# Altium schematic symbol library USB Connectors.SchLib: 40 symbols
Pins are listed as number, name and electrical type; pins without a type are passive.

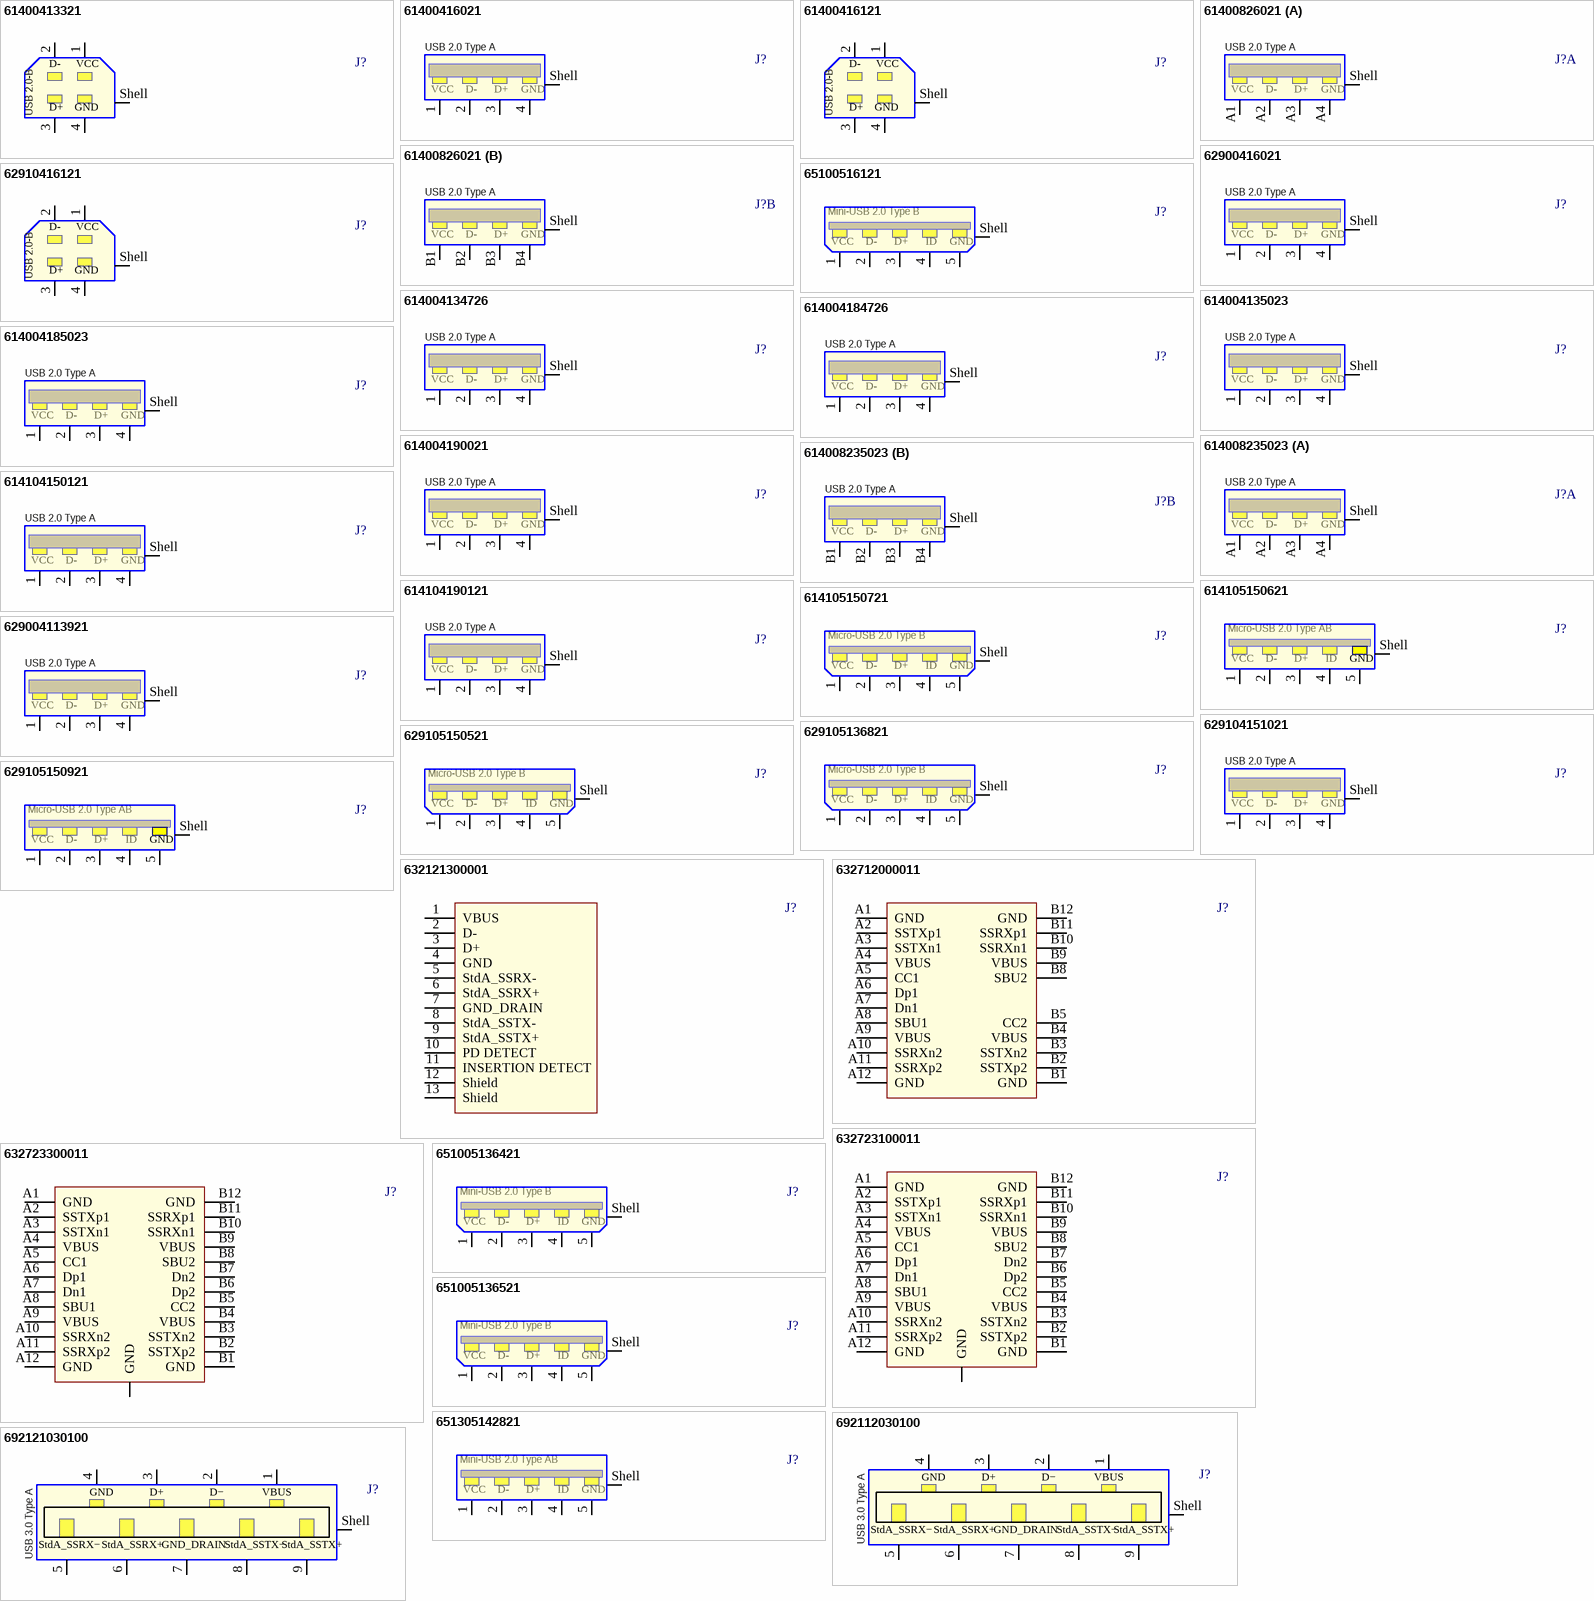
[diagram p0: symbols 61400413321 to 692121030100]

## 61400413321
designator J?
WR-COM USB 2.0 Type B Vertical; PartNumber: 61400413321; Published: June 2016; Publisher: Wurth Elektronik; ComponentLink1Description: Manufacturer; ComponentLink1URL: http://www.we-online.de; ComponentLink2Description: Datasheet; ComponentLink2URL: http://katalog.we-online.de/em/datasheet/61400413321.pdf
footprint 61400413321 (F Str 04p Btype vertical)
pins: 1 VCC, 2 D-, 3 D+, 4 GND, Shell
text: USB 2.0-B

## 61400416021
designator J?
WR-COM USB 2.0 Type A Horizontal; PartNumber: 61400416021; Published: June 2016; Publisher: Wurth Elektronik; ComponentLink1Description: Manufacturer; ComponentLink1URL: http://www.we-online.de; ComponentLink2Description: Datasheet; ComponentLink2URL: http://katalog.we-online.de/em/datasheet/61400416021.pdf
footprint 61400416021 (4 pins)
pins: 1 VCC, 2 D-, 3 D+, 4 GND, Shell
text: USB 2.0 Type A

## 61400416121
designator J?
WR-COM USB 2.0 Type B Horizontal; PartNumber: 61400416121; Published: June 2016; Publisher: Wurth Elektronik; ComponentLink1Description: Manufacturer; ComponentLink1URL: http://www.we-online.de; ComponentLink2Description: Datasheet; ComponentLink2URL: http://katalog.we-online.de/em/datasheet/61400416121.pdf
footprint 61400416121 (WR-COM Horizontal USB Type B    4 pins)
pins: 1 VCC, 2 D-, 3 D+, 4 GND, Shell
text: USB 2.0-B

## 61400826021
designator J?
WR-COM USB 2.0 Type A Horizontal Dual Stacked; PartNumber: 61400826021; Published: June 2016; Publisher: Wurth Elektronik; ComponentLink1Description: Manufacturer; ComponentLink1URL: http://www.we-online.de; ComponentLink2Description: Datasheet; ComponentLink2URL: http://katalog.we-online.de/em/datasheet/61400826021.pdf
footprint 61400826021 (2 x 4 pins)
part A pins: A1 VCC, A2 D-, A3 D+, A4 GND, Shell
part B pins: B1 VCC, B2 D-, B3 D+, B4 GND, Shell
part A text: USB 2.0 Type A
part B text: USB 2.0 Type A

## 62900416021
designator J?
WR-COM USB 2.0 SMT Type A Horizontal; PartNumber: 62900416021; Published: June 2016; Publisher: Wurth Elektronik; ComponentLink1Description: Manufacturer; ComponentLink1URL: http://www.we-online.de; ComponentLink2Description: Datasheet; ComponentLink2URL: http://katalog.we-online.de/em/datasheet/62900416021.pdf
footprint 62900416021 (4 pins)
pins: 1 VCC, 2 D-, 3 D+, 4 GND, Shell
text: USB 2.0 Type A

## 62910416121
designator J?
WR-COM USB 2.0 Type B SMT Horizontal; PartNumber: 62910416121; Published: June 2016; Publisher: Wurth Elektronik; ComponentLink1Description: Manufacturer; ComponentLink1URL: http://www.we-online.de; ComponentLink2Description: Datasheet; ComponentLink2URL: http://katalog.we-online.de/em/datasheet/62910416121.pdf
footprint 62910416121 (4 pins)
pins: 1 VCC, 2 D-, 3 D+, 4 GND, Shell
text: USB 2.0-B

## 65100516121
designator J?
WR-COM Mini USB 2.0 Type B SMT Horizontal 5 Contacts; PartNumber: 65100516121; Published: June 2016; Publisher: Wurth Elektronik; ComponentLink1Description: Manufacturer; ComponentLink1URL: http://www.we-online.de; ComponentLink2Description: Datasheet; ComponentLink2URL: http://katalog.we-online.de/em/datasheet/65100516121.pdf
footprint 65100516121 (5 pins)
pins: 1 VCC, 2 D-, 3 D+, 4 ID, 5 GND, Shell
text: Mini-USB 2.0 Type B

## 614004134726
designator J?
WR-COM USB 2.0 Type A Up Right; PartNumber: 614004134726; Published: June 2016; Publisher: Wurth Elektronik; ComponentLink1Description: Manufacturer; ComponentLink1URL: http://www.we-online.de; ComponentLink2Description: Datasheet; ComponentLink2URL: http://katalog.we-online.de/em/datasheet/614004134726.pdf
footprint 614004134726 (4 pins)
pins: 1 VCC, 2 D-, 3 D+, 4 GND, Shell
text: USB 2.0 Type A

## 614004135023
designator J?
WR-COM USB 2.0 Type A Vertical; PartNumber: 614004135023; Published: June 2016; Publisher: Wurth Elektronik; ComponentLink1Description: Manufacturer; ComponentLink1URL: http://www.we-online.de; ComponentLink2Description: Datasheet; ComponentLink2URL: http://katalog.we-online.de/em/datasheet/614004135023.pdf
footprint 614004135023 (4 pins)
pins: 1 VCC, 2 D-, 3 D+, 4 GND, Shell
text: USB 2.0 Type A

## 614004184726
designator J?
WR-COM USB 2.0 Type A Up Right THT; PartNumber: 614004184726; Published: June 2016; Publisher: Wurth Elektronik; ComponentLink1Description: Manufacturer; ComponentLink1URL: http://www.we-online.de; ComponentLink2Description: Datasheet; ComponentLink2URL: http://katalog.we-online.de/em/datasheet/614004184726.pdf
footprint 614004184726 (Type A Up Right THT - Short Type)
pins: 1 VCC, 2 D-, 3 D+, 4 GND, Shell
text: USB 2.0 Type A

## 614004185023
designator J?
WR-COM USB 2.0 Type A Vertical Short Type THT; PartNumber: 614004185023; Published: June 2016; Publisher: Wurth Elektronik; ComponentLink1Description: Manufacturer; ComponentLink1URL: http://www.we-online.de; ComponentLink2Description: Datasheet; ComponentLink2URL: http://katalog.we-online.de/em/datasheet/614004185023.pdf
footprint 614004185023 (Type A Vertical THT - with Clips - Short Type)
pins: 1 VCC, 2 D-, 3 D+, 4 GND, Shell
text: USB 2.0 Type A

## 614004190021
designator J?
WR-COM USB 2.0 Type A Horizontal THT; PartNumber: 614004190021; Published: June 2016; Publisher: Wurth Elektronik; ComponentLink1Description: Manufacturer; ComponentLink1URL: http://www.we-online.de; ComponentLink2Description: Datasheet; ComponentLink2URL: http://katalog.we-online.de/em/datasheet/614004190021.pdf
footprint 614004190021 (Type A Horizontal THT)
pins: 1 VCC, 2 D-, 3 D+, 4 GND, Shell
text: USB 2.0 Type A

## 614008235023
designator J?
WR-COM USB 2.0 Type A Vertical Dual; PartNumber: 614008235023; Published: June 2016; Publisher: Wurth Elektronik; ComponentLink1Description: Manufacturer; ComponentLink1URL: http://www.we-online.de; ComponentLink2Description: Datasheet; ComponentLink2URL: http://katalog.we-online.de/em/datasheet/614008235023.pdf
footprint 614008235023 (2 x 4 pins)
part A pins: A1 VCC, A2 D-, A3 D+, A4 GND, Shell
part B pins: B1 VCC, B2 D-, B3 D+, B4 GND, Shell
part A text: USB 2.0 Type A
part B text: USB 2.0 Type A

## 614104150121
designator J?
WR-COM USB 2.0 THT Type A Horizontal Slim Type; PartNumber: 614104150121; Published: June 2016; Publisher: Wurth Elektronik; ComponentLink1Description: Manufacturer; ComponentLink1URL: http://www.we-online.de; ComponentLink2Description: Datasheet; ComponentLink2URL: http://katalog.we-online.de/em/datasheet/614104150121.pdf
footprint 614104150121 (WR-COM_USB_Type A_Reverse Horizontal_THT Type A Reverse Horizontal THT - with Clips - Slim type for PCB thickness 1.20mm)
pins: 1 VCC, 2 D-, 3 D+, 4 GND, Shell
text: USB 2.0 Type A

## 614104190121
designator J?
WR-COM USB 2.0 Type A Horizontal THT Short Type; PartNumber: 614104190121; Published: June 2016; Publisher: Wurth Elektronik; ComponentLink1Description: Manufacturer; ComponentLink1URL: http://www.we-online.de; ComponentLink2Description: Datasheet; ComponentLink2URL: http://katalog.we-online.de/em/datasheet/614104190121.pdf
footprint 614104190121 (Type A Horizontal THT - Short Type)
pins: 1 VCC, 2 D-, 3 D+, 4 GND, Shell
text: USB 2.0 Type A

## 614105150621
designator J?
WR-COM Micro USB 2.0 Type AB Vertical 5 Contacts; PartNumber: 614105150621; Published: June 2016; Publisher: Wurth Elektronik; ComponentLink1Description: Manufacturer; ComponentLink1URL: http://www.we-online.de; ComponentLink2Description: Datasheet; ComponentLink2URL: http://katalog.we-online.de/em/datasheet/614105150621.pdf
footprint 614105150621 (WR-COM_USB_Micro Type AB_Vertical_THT Micro Type AB Vertical THT)
pins: 1 VCC, 2 D-, 3 D+, 4 ID, 5 GND, Shell
text: Micro-USB 2.0 Type AB

## 614105150721
designator J?
WR-COM Micro USB 2.0 Type B Vertical 5 Contacts; PartNumber: 614105150721; Published: June 2016; Publisher: Wurth Elektronik; ComponentLink1Description: Manufacturer; ComponentLink1URL: http://www.we-online.de; ComponentLink2Description: Datasheet; ComponentLink2URL: http://katalog.we-online.de/em/datasheet/614105150721.pdf
footprint 614105150721 (WR-COM_USB_Micro Type B_Vertical_THT Micro Type B Vertical THT)
pins: 1 VCC, 2 D-, 3 D+, 4 ID, 5 GND, Shell
text: Micro-USB 2.0 Type B

## 629004113921
designator J?
WR-COM USB 2.0 Plug Type A SMT w. Clip; PartNumber: 629004113921; Published: June 2016; Publisher: Wurth Elektronik; ComponentLink1Description: Manufacturer; ComponentLink1URL: http://www.we-online.de; ComponentLink2Description: Datasheet; ComponentLink2URL: http://katalog.we-online.de/em/datasheet/629004113921.pdf
footprint 629004113921 (4 pins)
pins: 1 VCC, 2 D-, 3 D+, 4 GND, Shell
text: USB 2.0 Type A

## 629104151021
designator J?
WR-COM USB 2.0 Type A Horizontal SMT with pegs; PartNumber: 629104151021; Published: June 2016; Publisher: Wurth Elektronik; ComponentLink1Description: Manufacturer; ComponentLink1URL: http://www.we-online.de; ComponentLink2Description: Datasheet; ComponentLink2URL: http://katalog.we-online.de/em/datasheet/629104151021.pdf
footprint 629104151021 (WR-COM_USB_Type A_Horizontal_SMT Type A Horizontal SMT - with Pegs - T&R Packaging)
pins: 1 VCC, 2 D-, 3 D+, 4 GND, Shell
text: USB 2.0 Type A

## 629105136821
designator J?
WR-COM Micro USB 2.0 SMT Type B Horizontal 5 Contacts; PartNumber: 629105136821; Published: June 2016; Publisher: Wurth Elektronik; ComponentLink1Description: Manufacturer; ComponentLink1URL: http://www.we-online.de; ComponentLink2Description: Datasheet; ComponentLink2URL: http://katalog.we-online.de/em/datasheet/629105136821.pdf
footprint 629105136821 (5 pins)
pins: 1 VCC, 2 D-, 3 D+, 4 ID, 5 GND, Shell
text: Micro-USB 2.0 Type B

## 629105150521
designator J?
WR-COM Micro USB 2.0 SMT Type B Horizontal 5 Contacts; PartNumber: 629105150521; Published: June 2016; Publisher: Wurth Elektronik; ComponentLink1Description: Manufacturer; ComponentLink1URL: http://www.we-online.de; ComponentLink2Description: Datasheet; ComponentLink2URL: http://katalog.we-online.de/em/datasheet/629105150521.pdf
footprint 629105150521 (WR-COM_USB_Micro Type B_Horizontal_SMT Micro Type B Horizontal SMT - 3A current at Pin1 & Pin 5 - with Pegs and THT shielding Pins  - T&R Packaging)
pins: 1 VCC, 2 D-, 3 D+, 4 ID, 5 GND, Shell
text: Micro-USB 2.0 Type B

## 629105150921
designator J?
WR-COM Micro USB 2.0 Type AB Horizontal; PartNumber: 629105150921; Published: June 2016; Publisher: Wurth Elektronik; ComponentLink1Description: Manufacturer; ComponentLink1URL: http://www.we-online.de; ComponentLink2Description: Datasheet; ComponentLink2URL: http://katalog.we-online.de/em/datasheet/629105150921.pdf
footprint 629105150921 (WR-COM_USB_Micro Type AB_Horizontal_SMT Micro Type AB Horizontal SMT - with Pegs - T&R Packaging)
pins: 1 VCC, 2 D-, 3 D+, 4 ID, 5 GND, Shell
text: Micro-USB 2.0 Type AB

## 632121300001
designator J?
WR-COM USB 3.1 Type A Receptacle Horizontal THT Power Delivery; PartNumber: 632121300001; Published: June 2016; Publisher: Wurth Elektronik; ComponentLink1Description: Manufacturer; ComponentLink1URL: http://www.we-online.de; ComponentLink2Description: Datasheet; ComponentLink2URL: http://katalog.we-online.de/em/datasheet/632121300001.pdf
footprint 632121300001 (USB 3.1_Type A_Horizontal_THT)
pins: 1 VBUS, 2 D-, 3 D+, 4 GND, 5 StdA_SSRX-, 6 StdA_SSRX+, 7 GND_DRAIN, 8 StdA_SSTX-, 9 StdA_SSTX+, 10 PD DETECT, 11 INSERTION DETECT, 12 Shield, 13 Shield

## 632712000011
designator J?
WR-COM USB 3.1 Type C Plug Horizontal SMT; PartNumber: 632712000011; Published: June 2016; Publisher: Wurth Elektronik; ComponentLink1Description: Manufacturer; ComponentLink1URL: http://www.we-online.de; ComponentLink2Description: Datasheet; ComponentLink2URL: http://katalog.we-online.de/em/datasheet/632712000011.pdf
footprint 632712000011 (Type C Plug Horizontal SMT)
pins: A1 GND, A2 SSTXp1, A3 SSTXn1, A4 VBUS, A5 CC1, A6 Dp1, A7 Dn1, A8 SBU1, A9 VBUS, A10 SSRXn2, A11 SSRXp2, A12 GND, B1 GND, B2 SSTXp2, B3 SSTXn2, B4 VBUS, B5 CC2, B8 SBU2, B9 VBUS, B10 SSRXn1, B11 SSRXp1, B12 GND

## 632723100011
designator J?
WR-COM USB 3.1 Type C Receptacle Horizontal THT & SMT; PartNumber: 632723100011; Published: June 2016; Publisher: Wurth Elektronik; ComponentLink1Description: Manufacturer; ComponentLink1URL: http://www.we-online.de; ComponentLink2Description: Datasheet; ComponentLink2URL: http://katalog.we-online.de/em/datasheet/632723x00011.pdf
footprint 632723100011 (USB 3.1_Type C_Horizontal_THT/SMT_1.0mm)
pins: A1 GND, A2 SSTXp1, A3 SSTXn1, A4 VBUS, A5 CC1, A6 Dp1, A7 Dn1, A8 SBU1, A9 VBUS, A10 SSRXn2, A11 SSRXp2, A12 GND, B1 GND, B2 SSTXp2, B3 SSTXn2, B4 VBUS, B5 CC2, B6 Dp2, B7 Dn2, B8 SBU2, B9 VBUS, B10 SSRXn1, B11 SSRXp1, B12 GND, GND

## 632723300011
designator J?
WR-COM USB 3.1 Type C Receptacle Horizontal THT & SMT; PartNumber: 632723300011; Published: June 2016; Publisher: Wurth Elektronik; ComponentLink1Description: Manufacturer; ComponentLink1URL: http://www.we-online.de; ComponentLink2Description: Datasheet; ComponentLink2URL: http://katalog.we-online.de/em/datasheet/632723x00011.pdf
footprint 632723300011 (USB 3.1_Type C_Horizontal_THT/SMT)
pins: A1 GND, A2 SSTXp1, A3 SSTXn1, A4 VBUS, A5 CC1, A6 Dp1, A7 Dn1, A8 SBU1, A9 VBUS, A10 SSRXn2, A11 SSRXp2, A12 GND, B1 GND, B2 SSTXp2, B3 SSTXn2, B4 VBUS, B5 CC2, B6 Dp2, B7 Dn2, B8 SBU2, B9 VBUS, B10 SSRXn1, B11 SSRXp1, B12 GND, GND

## 651005136421
designator J?
WR-COM Mini USB 2.0 Type B Vertical 5 Contacts; PartNumber: 651005136421; Published: June 2016; Publisher: Wurth Elektronik; ComponentLink1Description: Manufacturer; ComponentLink1URL: http://www.we-online.de; ComponentLink2Description: Datasheet; ComponentLink2URL: http://katalog.we-online.de/em/datasheet/651005136421.pdf
footprint 651005136421 (5 pins)
pins: 1 VCC, 2 D-, 3 D+, 4 ID, 5 GND, Shell
text: Mini-USB 2.0 Type B

## 651005136521
designator J?
WR-COM Mini USB 2.0 Type B Horizontal 5 Contacts; PartNumber: 651005136521; Published: June 2016; Publisher: Wurth Elektronik; ComponentLink1Description: Manufacturer; ComponentLink1URL: http://www.we-online.de; ComponentLink2Description: Datasheet; ComponentLink2URL: http://katalog.we-online.de/em/datasheet/651005136521.pdf
footprint 651005136521 (5 pins)
pins: 1 VCC, 2 D-, 3 D+, 4 ID, 5 GND, Shell
text: Mini-USB 2.0 Type B

## 651305142821
designator J?
WR-COM Mini USB 2.0 Type AB SMT Horizontal 5 Contacts; PartNumber: 651305142821; Published: June 2016; Publisher: Wurth Elektronik; ComponentLink1Description: Manufacturer; ComponentLink1URL: http://www.we-online.de; ComponentLink2Description: Datasheet; ComponentLink2URL: http://katalog.we-online.de/em/datasheet/651305142821.pdf
footprint 651305142821 (5 pins)
pins: 1 VCC, 2 D-, 3 D+, 4 ID, 5 GND, Shell
text: Mini-USB 2.0 Type AB

## 692112030100
designator J?
WR-COM USB 3.0 Type A SMT Plug with Clip; PartNumber: 692112030100; Published: June 2016; Publisher: Wurth Elektronik; ComponentLink1Description: Manufacturer; ComponentLink1URL: http://www.we-online.de; ComponentLink2Description: Datasheet; ComponentLink2URL: http://katalog.we-online.de/em/datasheet/692112030100.pdf
footprint 692112030100 (Plug SMT)
pins: 1 VBUS, 2 D−, 3 D+, 4 GND, 5 StdA_SSRX−, 6 StdA_SSRX+, 7 GND_DRAIN, 8 StdA_SSTX−, 9 StdA_SSTX+, Shell
text: USB 3.0 Type A

## 692121030100
designator J?
WR-COM USB 3.0 Type A Horizontal; PartNumber: 692121030100; Published: June 2016; Publisher: Wurth Elektronik; ComponentLink1Description: Manufacturer; ComponentLink1URL: http://www.we-online.de; ComponentLink2Description: Datasheet; ComponentLink2URL: http://katalog.we-online.de/em/datasheet/692121030100.pdf
footprint 692121030100 (Receptacle Through hole)
pins: 1 VBUS, 2 D−, 3 D+, 4 GND, 5 StdA_SSRX−, 6 StdA_SSRX+, 7 GND_DRAIN, 8 StdA_SSTX−, 9 StdA_SSTX+, Shell
text: USB 3.0 Type A

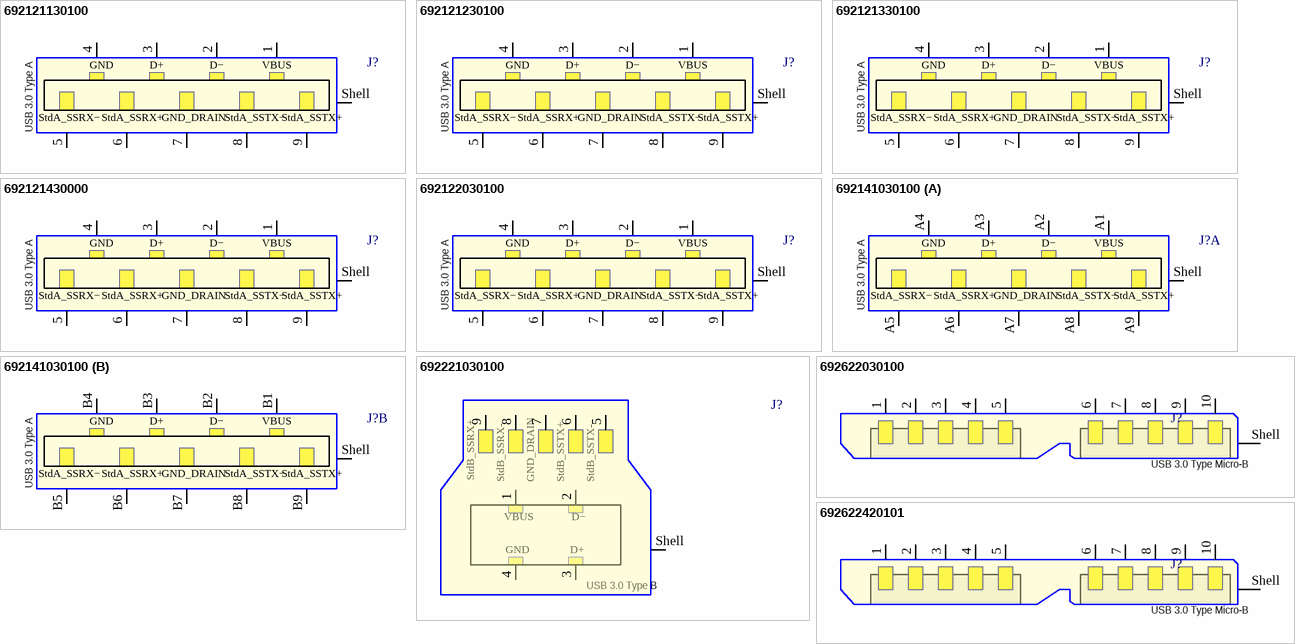
[diagram p1: symbols 692121130100 to 692622420101]

## 692121130100
designator J?
WR-COM USB 3.0 Type A Reverse Horizontal w. Offset 0.14mm; PartNumber: 692121130100; Published: June 2016; Publisher: Wurth Elektronik; ComponentLink1Description: Manufacturer; ComponentLink1URL: http://www.we-online.de; ComponentLink2Description: Datasheet; ComponentLink2URL: http://katalog.we-online.de/em/datasheet/692121130100.pdf
footprint 692121130100 (Receptacle TH Reverse Offset 0.14mm)
pins: 1 VBUS, 2 D−, 3 D+, 4 GND, 5 StdA_SSRX−, 6 StdA_SSRX+, 7 GND_DRAIN, 8 StdA_SSTX−, 9 StdA_SSTX+, Shell
text: USB 3.0 Type A

## 692121230100
designator J?
WR-COM USB 3.0 Type A Horizontal w. Offset 1.04mm; PartNumber: 692121230100; Published: June 2016; Publisher: Wurth Elektronik; ComponentLink1Description: Manufacturer; ComponentLink1URL: http://www.we-online.de; ComponentLink2Description: Datasheet; ComponentLink2URL: http://katalog.we-online.de/em/datasheet/692121230100.pdf
footprint 692121230100 (Receptacle Through hole Offset 1.04mm)
pins: 1 VBUS, 2 D−, 3 D+, 4 GND, 5 StdA_SSRX−, 6 StdA_SSRX+, 7 GND_DRAIN, 8 StdA_SSTX−, 9 StdA_SSTX+, Shell
text: USB 3.0 Type A

## 692121330100
designator J?
WR-COM USB 3.0 Type A Reverse Horizontal w. Offset 1.75mm; PartNumber: 692121330100; Published: June 2016; Publisher: Wurth Elektronik; ComponentLink1Description: Manufacturer; ComponentLink1URL: http://www.we-online.de; ComponentLink2Description: Datasheet; ComponentLink2URL: http://katalog.we-online.de/em/datasheet/692121330100.pdf
footprint 692121330100 (Receptacle TH Reverse Offset 1.75mm)
pins: 1 VBUS, 2 D−, 3 D+, 4 GND, 5 StdA_SSRX−, 6 StdA_SSRX+, 7 GND_DRAIN, 8 StdA_SSTX−, 9 StdA_SSTX+, Shell
text: USB 3.0 Type A

## 692121430000
designator J?
WR-COM USB 3.0 Type A Vertical THT; PartNumber: 692121430000; Published: June 2016; Publisher: Wurth Elektronik; ComponentLink1Description: Manufacturer; ComponentLink1URL: http://www.we-online.de; ComponentLink2Description: Datasheet; ComponentLink2URL: http://katalog.we-online.de/em/datasheet/692121430000.pdf
footprint 692121430000 (Receptacle Through hole)
pins: 1 VBUS, 2 D−, 3 D+, 4 GND, 5 StdA_SSRX−, 6 StdA_SSRX+, 7 GND_DRAIN, 8 StdA_SSTX−, 9 StdA_SSTX+, Shell
text: USB 3.0 Type A

## 692122030100
designator J?
WR-COM USB 3.0 Type A Horizontal SMD; PartNumber: 692122030100; Published: June 2016; Publisher: Wurth Elektronik; ComponentLink1Description: Manufacturer; ComponentLink1URL: http://www.we-online.de; ComponentLink2Description: Datasheet; ComponentLink2URL: http://katalog.we-online.de/em/datasheet/692122030100.pdf
footprint 692122030100 (Receptacle Dual port TH)
pins: 1 VBUS, 2 D−, 3 D+, 4 GND, 5 StdA_SSRX−, 6 StdA_SSRX+, 7 GND_DRAIN, 8 StdA_SSTX−, 9 StdA_SSTX+, Shell
text: USB 3.0 Type A

## 692141030100
designator J?
WR-COM USB 3.0 Type A Stacked; PartNumber: 692141030100; Published: June 2016; Publisher: Wurth Elektronik; ComponentLink1Description: Manufacturer; ComponentLink1URL: http://www.we-online.de; ComponentLink2Description: Datasheet; ComponentLink2URL: http://katalog.we-online.de/em/datasheet/692141030100.pdf
footprint 692141030100 (Receptacle Dual port TH)
part A pins: A1 VBUS, A2 D−, A3 D+, A4 GND, A5 StdA_SSRX−, A6 StdA_SSRX+, A7 GND_DRAIN, A8 StdA_SSTX−, A9 StdA_SSTX+, Shell
part B pins: B1 VBUS, B2 D−, B3 D+, B4 GND, B5 StdA_SSRX−, B6 StdA_SSRX+, B7 GND_DRAIN, B8 StdA_SSTX−, B9 StdA_SSTX+, Shell
part A text: USB 3.0 Type A
part B text: USB 3.0 Type A

## 692221030100
designator J?
WR-COM USB 3.0 Type B Horizontal; PartNumber: 692221030100; Published: June 2016; Publisher: Wurth Elektronik; ComponentLink1Description: Manufacturer; ComponentLink1URL: http://www.we-online.de; ComponentLink2Description: Datasheet; ComponentLink2URL: http://katalog.we-online.de/em/datasheet/692221030100.pdf
footprint 692221030100 (Receptacle TH)
pins: 1 VBUS, 2 D−, 3 D+, 4 GND, 5 StdB_SSTX-, 6 StdB_SSTX+, 7 GND_DRAIN, 8 StdB_SSRX-, 9 StdB_SSRX+, Shell
text: USB 3.0 Type B

## 692622030100
designator J?
WR-COM Micro USB 3.0 Type B Horizontal SMT; PartNumber: 692622030100; Published: June 2016; Publisher: Wurth Elektronik; ComponentLink1Description: Manufacturer; ComponentLink1URL: http://www.we-online.de; ComponentLink2Description: Datasheet; ComponentLink2URL: 692622030100
footprint 692622030100 (Receptacle SMT)
pins: 1 VBUS, 2 D-, 3 D+, 4 ID, 5 GND, 6 MicB_SSTX–, 7 MicB_SSTX+, 8 GND_DRAIN, 9 MicB_SSRX–, 10 MicB_SSRX+, Shell
text: USB 3.0 Type Micro-B

## 692622420101
designator J?
WR-COM Micro USB 3.0 Type B Vertical SMT; PartNumber: 692622420101; Published: June 2016; Publisher: Wurth Elektronik; ComponentLink1Description: Manufacturer; ComponentLink1URL: http://www.we-online.de; ComponentLink2Description: Datasheet; ComponentLink2URL: http://katalog.we-online.de/em/datasheet/692622420101.pdf
footprint 692622420101 (Micro Type B Vertical SMT - with Pads & positionning peg)
pins: 1 VBUS, 2 D-, 3 D+, 4 ID, 5 GND, 6 MicB_SSTX–, 7 MicB_SSTX+, 8 GND_DRAIN, 9 MicB_SSRX–, 10 MicB_SSRX+, Shell
text: USB 3.0 Type Micro-B